# Altium schematic symbol library SCH - POWER - LINEAR VREG - TI LM9036Q-Q1_D_8.SchLib: 1 symbol
Pins are listed as number, name and electrical type; pins without a type are passive.

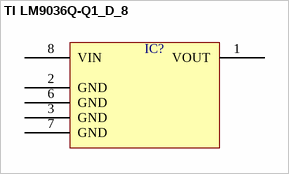
[diagram p0: symbol TI LM9036Q-Q1_D_8]

## TI LM9036Q-Q1_D_8
designator IC?  (value not drawn)
pins: 1 VOUT, 2 GND, 3 GND, 6 GND, 7 GND, 8 VIN